# EAGLE library part EK-TM4C1294XL_BOOST2 (library EE445L)
Booster pack 2, Texas Instruments TM4C1294 Connected LaunchPad www.ti.com/tool/ek-tm4c1294xl This board is based on the TM4C1294NCPDT microcontroller, which is a120MHz 32-bit ARM Cortex-M4 CPU with floating point, 1MB Flash, 256KB SRAM, 6KB EEPROM, Integrated 10/100 Ethernet MAC+PHY, data protection hardware, 8x 32-bit timers, dual 12-bit 2MSPS ADCs, motion control PWMs, USB H/D/O
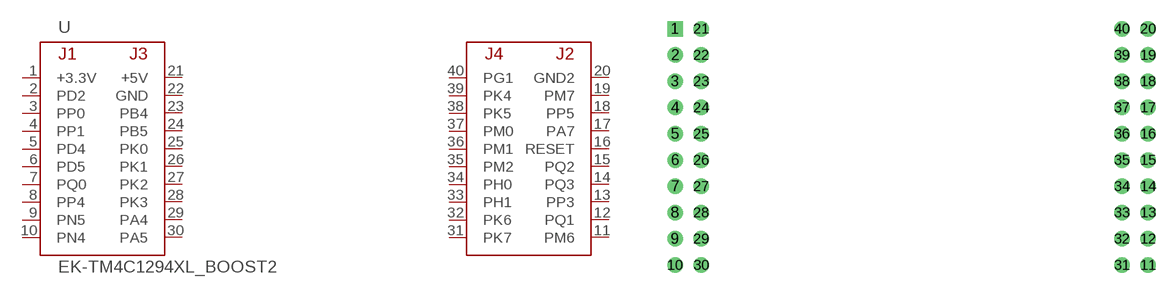
[diagram p26: symbol with the pads of TM4C123LAUNCHPAD; footprint TM4C123LAUNCHPAD]

Designator prefix -

## EK-TM4C1294XL_BOOST2  [TM4C123LAUNCHPAD]
1  +3.3V  pwr
2  PD2
3  PP0
4  PP1
5  PD4
6  PD5
7  PQ0
8  PP4
9  PN5
10  PN4
11  PM6
12  PQ1
13  PP3
14  PQ3
15  PQ2
16  RESET  in
17  PA7
18  PP5
19  PM7
20  GND2  pwr
21  +5V  pwr
22  GND  pwr
23  PB4
24  PB5
25  PK0
26  PK1
27  PK2
28  PK3
29  PA4
30  PA5
31  PK7
32  PK6
33  PH1
34  PH0
35  PM2
36  PM1
37  PM0
38  PK5
39  PK4
40  PG1

## Footprint TM4C123LAUNCHPAD (pad centres in mm)
Two Dual In Line Samtec ESW-110-37-L-D or FCI 67997-210HLF, Digikey 609-3236-ND
drill 0.991 square: 1 -22.86,12.7
drill 0.991: 2 -22.86,10.16; 3 -22.86,7.62; 4 -22.86,5.08; 5 -22.86,2.54; 6 -22.86,0; 7 -22.86,-2.54; 8 -22.86,-5.08; 9 -22.86,-7.62; 10 -22.86,-10.16; 11 22.86,-10.16; 12 22.86,-7.62; 13 22.86,-5.08; 14 22.86,-2.54; 15 22.86,0; 16 22.86,2.54; 17 22.86,5.08; 18 22.86,7.62; 19 22.86,10.16; 20 22.86,12.7; 21 -20.32,12.7; 22 -20.32,10.16; 23 -20.32,7.62; 24 -20.32,5.08; 25 -20.32,2.54; 26 -20.32,0; 27 -20.32,-2.54; 28 -20.32,-5.08; 29 -20.32,-7.62; 30 -20.32,-10.16; 31 20.32,-10.16; 32 20.32,-7.62; 33 20.32,-5.08; 34 20.32,-2.54; 35 20.32,0; 36 20.32,2.54; 37 20.32,5.08; 38 20.32,7.62; 39 20.32,10.16; 40 20.32,12.7